# EAGLE library part MOTOR_ENCODER_25D (library MOTOR_ENCODER_25D)
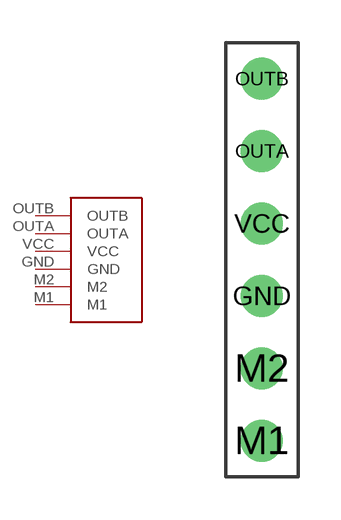
[diagram p0: symbol with the pads of MOTOR_ENCODER_25D; footprint MOTOR_ENCODER_25D]

Designator prefix -

## MOTOR_ENCODER_25D  [MOTOR_ENCODER_25D]
GND  GND
M1  M1
M2  M2
OUTA  OUTA
OUTB  OUTB
VCC  VCC

## Footprint MOTOR_ENCODER_25D (pad centres in mm)
drill 0.965: GND 0,-1.27; M1 0,-6.35; M2 0,-3.81; OUTA 0,3.81; OUTB 0,6.35; VCC 0,1.27